# EAGLE library part NRF905_MODULE (library maple_mini)
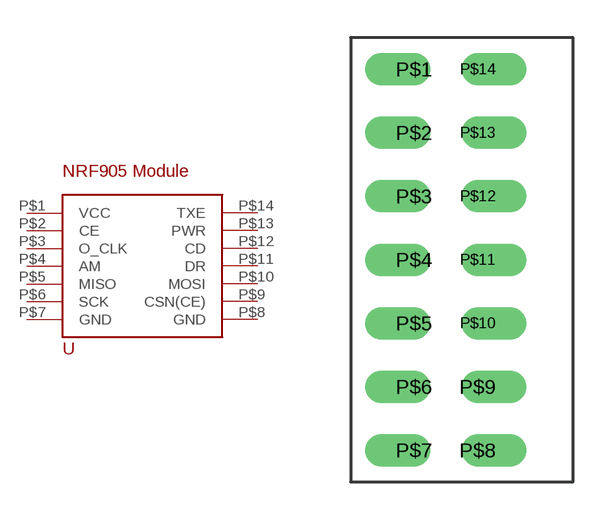
[diagram p2: symbol with the pads of PIN14; footprint PIN14]

Designator prefix -

## NRF905_MODULE  [PIN14]
P$1  VCC  pwr
P$2  CE  in
P$3  O_CLK  out
P$4  AM  out
P$5  MISO  out
P$6  SCK
P$7  GND  pwr
P$8  GND  pwr
P$9  CSN(CE)  in
P$10  MOSI  in
P$11  DR
P$12  CD
P$13  PWR
P$14  TXE

## Footprint PIN14 (pad centres in mm)
drill 0.8 offset: P$1 0,0; P$2 0,-2.54; P$3 0,-5.08; P$4 0,-7.62; P$5 0,-10.16; P$6 0,-12.7; P$7 0,-15.24; P$8 2.54,-15.24; P$9 2.54,-12.7; P$10 2.54,-10.16; P$11 2.54,-7.62; P$12 2.54,-5.08; P$13 2.54,-2.54; P$14 2.54,0